# EAGLE library part TP4056 (library LARS_409_MODULES)
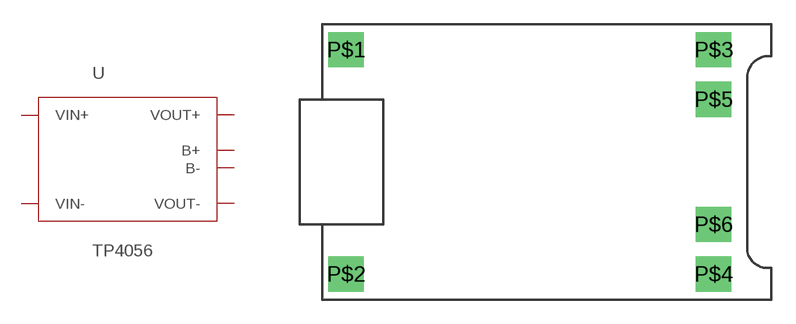
[diagram p8: symbol with the pads of TP4056; footprint TP4056]

Designator prefix U

## TP4056  [TP4056]
P$1  VIN+
P$2  VIN-
P$3  VOUT+
P$4  VOUT-
P$5  B+
P$6  B-

## Footprint TP4056 (pad centres in mm)
drill 1.2 pad 2.2 square: P$1 1.5,15.6; P$2 1.5,1.6; P$3 24.4,15.6; P$4 24.4,1.6; P$5 24.4,12.5; P$6 24.4,4.7